# Altium footprint library mypcb.PcbLib: 46 footprints (part 3 of 3)
Each footprint in its own frame and in the unit in brackets; x right, y up, seen from the top. Pads: shape width x height; smd on the part's side, far side on the other; paste and mask are expansions set on the pad; w line width, h text height; cw(c..) or ccw(c..) is an arc to the next point about the centre after c.
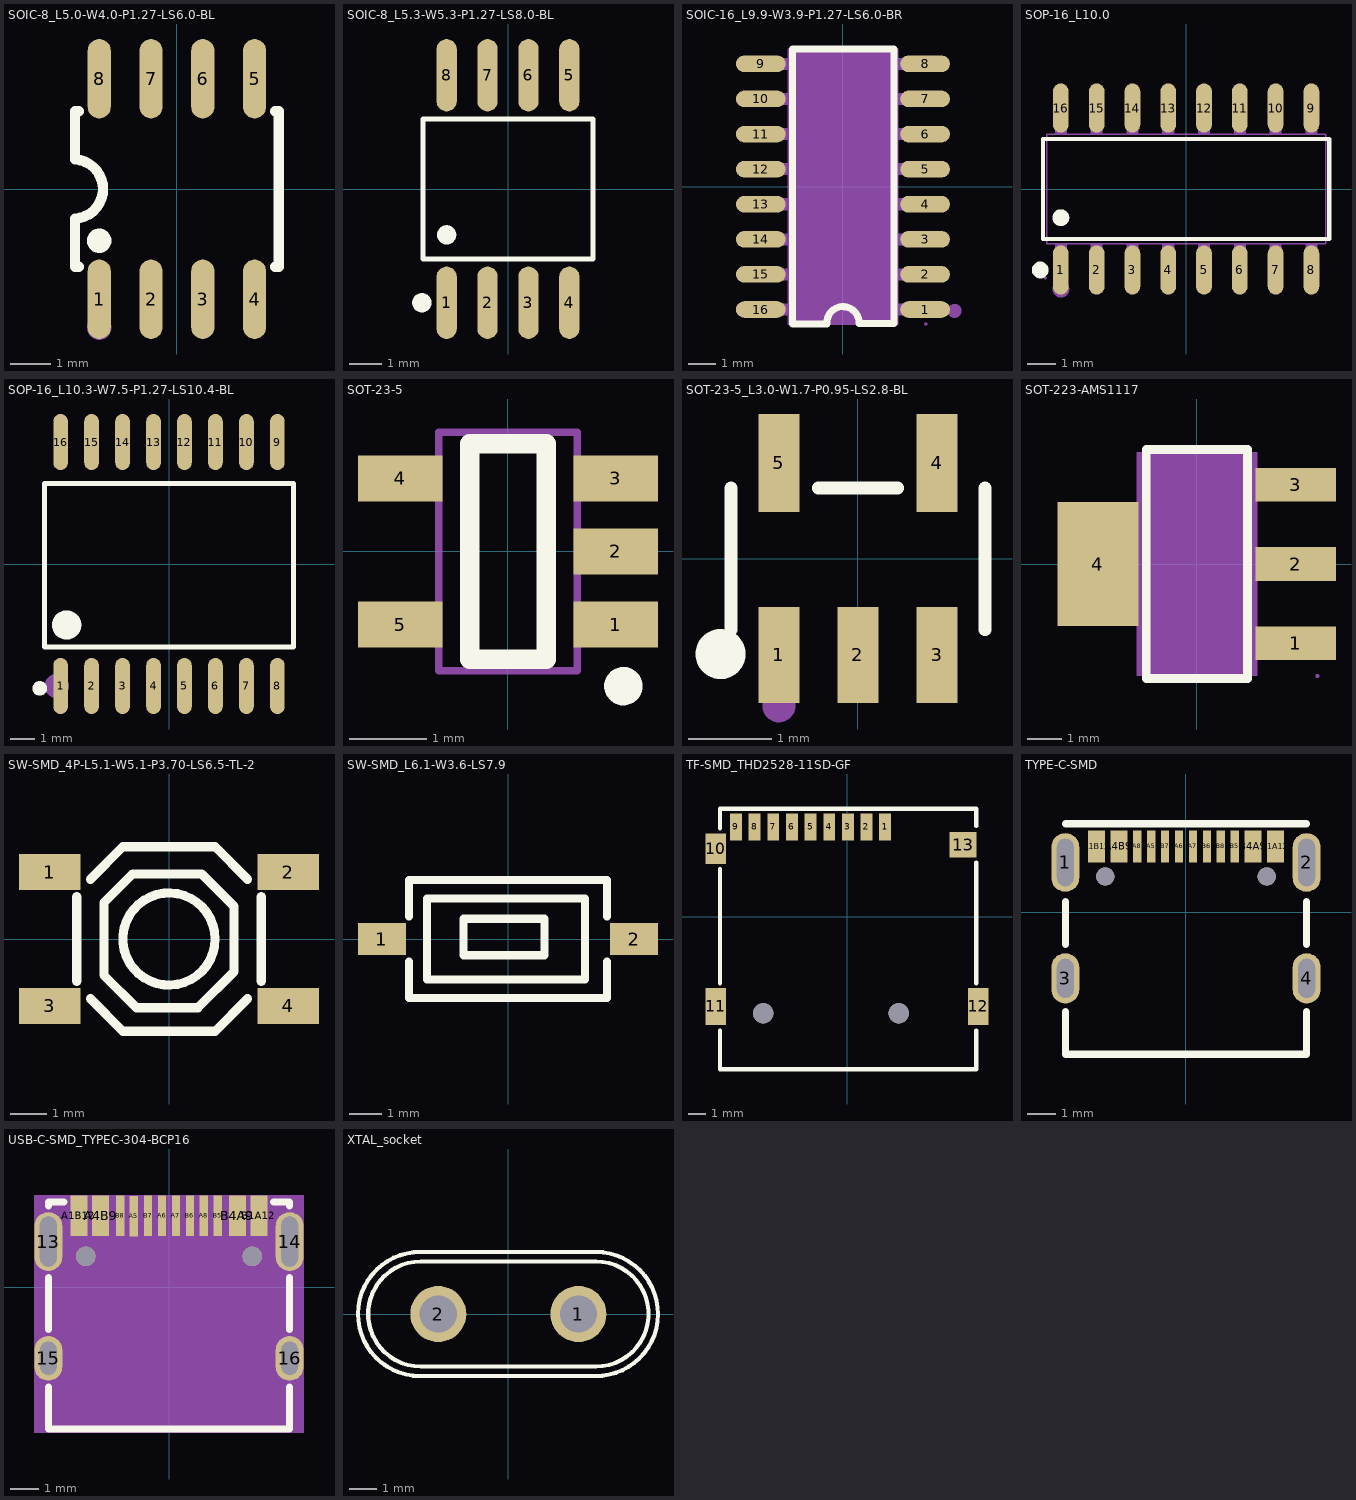
[diagram p2: the footprints below, top view; thin cyan lines are the x and y axes]

## SOIC-8_L5.0-W4.0-P1.27-LS6.0-BL [mil]
pads (8):
  oval 22.38x76.78 smd: 1(-75,-106.5) 2(-25,-106.5) 3(25,-106.5) 4(75,-106.5) 5(75,106.5) 6(25,106.5) 7(-25,106.5) 8(-75,106.5)
Top Overlay:
  circle w11.81: c-75,-50 r5.91
  lines w10: -98.43,-28.61 ccw(c-99.99,0) -98.23,28.59 ; -98.42,-28.61 -98.42,-59.05 -98.42,-75 -94.83,-75 ; -98.42,28.59 -98.42,59.05 -98.42,75 -94.83,75 ; 94.83,-75 98.42,-75 98.42,-59.05 98.42,59.05 98.42,75 94.83,75
Mechanical 15:
  circle w11.81: c-75,-133.86 r5.91

## SOIC-8_L5.3-W5.3-P1.27-LS8.0-BL [mm]
pads (8):
  oval 0.63x2.25 smd: 1(-1.905,-3.53) 2(-0.635,-3.53) 3(0.635,-3.53) 4(1.905,-3.53) 5(1.905,3.53) 6(0.635,3.53) 7(-0.635,3.53) 8(-1.905,3.53)
Top Overlay:
  circle w0.3: c-1.905,-1.424 r0.15
  circle w0.3: c-2.672,-3.53 r0.15
  lines w0.152: -2.639,-2.176 -2.639,2.176 2.639,2.176 2.639,-2.176 -2.639,-2.176
Mechanical 15:
  circle w0.3: c-1.905,-4.35 r0.15

## SOIC-16_L9.9-W3.9-P1.27-LS6.0-BR [mm]
pads (16):
  oval 1.8x0.6 smd: 1(2.972,-4.445) 2(2.972,-3.175) 3(2.972,-1.905) 4(2.972,-0.635) 5(2.972,0.635) 6(2.972,1.905) 7(2.972,3.175) 8(2.972,4.445) 9(-2.972,4.445) 10(-2.972,3.175) 11(-2.972,1.905) 12(-2.972,0.635) 13(-2.972,-0.635) 14(-2.972,-1.905) 15(-2.972,-3.175) 16(-2.972,-4.445)
Top Overlay:
  lines w0.254: -0.584,-4.976 -1.829,-4.976 -1.829,4.976 1.854,4.976 1.854,-4.928 ; -0.584,-4.95 cw(c0,-4.928) 0.584,-4.953 1.854,-4.953
Mechanical 4:
  region: -2,-5 -2,5 2,5 2,-5
Mechanical 5:
  pour cut-out: 1.99,-4.655 1.99,-4.235 2.175,-4.235 2.175,-4.655
  region: 2.165,-4.655 2.165,-4.235 3,-4.235 3,-4.655
  pour cut-out: 1.99,-3.385 1.99,-2.965 2.175,-2.965 2.175,-3.385
  region: 2.165,-3.385 2.165,-2.965 3,-2.965 3,-3.385
  pour cut-out: 1.99,-2.115 1.99,-1.695 2.175,-1.695 2.175,-2.115
  region: 2.165,-2.115 2.165,-1.695 3,-1.695 3,-2.115
  pour cut-out: 1.99,-0.845 1.99,-0.425 2.175,-0.425 2.175,-0.845
  region: 2.165,-0.845 2.165,-0.425 3,-0.425 3,-0.845
  pour cut-out: 1.99,0.425 1.99,0.845 2.175,0.845 2.175,0.425
  region: 2.165,0.425 2.165,0.845 3,0.845 3,0.425
  pour cut-out: 1.99,1.695 1.99,2.115 2.175,2.115 2.175,1.695
  region: 2.165,1.695 2.165,2.115 3,2.115 3,1.695
  pour cut-out: 1.99,2.965 1.99,3.385 2.175,3.385 2.175,2.965
  region: 2.165,2.965 2.165,3.385 3,3.385 3,2.965
  pour cut-out: 1.99,4.235 1.99,4.655 2.175,4.655 2.175,4.235
  region: 2.165,4.235 2.165,4.655 3,4.655 3,4.235
  pour cut-out: -2.175,-4.655 -2.175,-4.235 -1.99,-4.235 -1.99,-4.655
  region: -3,-4.655 -3,-4.235 -2.165,-4.235 -2.165,-4.655
  pour cut-out: -2.175,-3.385 -2.175,-2.965 -1.99,-2.965 -1.99,-3.385
  region: -3,-3.385 -3,-2.965 -2.165,-2.965 -2.165,-3.385
  pour cut-out: -2.175,-2.115 -2.175,-1.695 -1.99,-1.695 -1.99,-2.115
  region: -3,-2.115 -3,-1.695 -2.165,-1.695 -2.165,-2.115
  pour cut-out: -2.175,-0.845 -2.175,-0.425 -1.99,-0.425 -1.99,-0.845
  region: -3,-0.845 -3,-0.425 -2.165,-0.425 -2.165,-0.845
  pour cut-out: -2.175,0.425 -2.175,0.845 -1.99,0.845 -1.99,0.425
  region: -3,0.425 -3,0.845 -2.165,0.845 -2.165,0.425
  pour cut-out: -2.175,1.695 -2.175,2.115 -1.99,2.115 -1.99,1.695
  region: -3,1.695 -3,2.115 -2.165,2.115 -2.165,1.695
  pour cut-out: -2.175,2.965 -2.175,3.385 -1.99,3.385 -1.99,2.965
  region: -3,2.965 -3,3.385 -2.165,3.385 -2.165,2.965
  pour cut-out: -2.175,4.235 -2.175,4.655 -1.99,4.655 -1.99,4.235
  region: -3,4.235 -3,4.655 -2.165,4.655 -2.165,4.235
Mechanical 6:
  circle w0.06: c3,-4.97 r0.03
Mechanical 15:
  circle w0.254: c4.039,-4.496 r0.127
3D body "3D_ch340c.step": height 1.75, standoff 0.05, extent -2.966,-4.979 3.14,5.021

## SOP-16_L10.0 [mm]
pads (16):
  oval 0.559x1.745 smd mask+0.051: 1(-4.445,-2.873) 2(-3.175,-2.873) 3(-1.905,-2.873) 4(-0.635,-2.873) 5(0.635,-2.873) 6(1.905,-2.873) 7(3.175,-2.873) 8(4.445,-2.873) 9(4.445,2.873) 10(3.175,2.873) 11(1.905,2.873) 12(0.635,2.873) 13(-0.635,2.873) 14(-1.905,2.873) 15(-3.175,2.873) 16(-4.445,2.873)
Top Overlay:
  circle w0.3: c-5.177,-2.873 r0.15
  circle w0.3: c-4.445,-1.019 r0.15
  lines w0.152: -5.075,-1.77 5.077,-1.77 5.077,1.77 -5.075,1.77 -5.075,-1.77
Mechanical 6:
  circle w0.3: c-4.445,-3.551 r0.15
Mechanical 15:
  drawing of 37 lines, arcs and shapes, not listed
3D body "3D_ch340c.step": height 1.75, standoff 0.05, extent -4.979,-3.14 5.021,2.966

## SOP-16_L10.3-W7.5-P1.27-LS10.4-BL [mm]
pads (16):
  oval 0.6x2.3 smd: 1(-4.445,-5) 2(-3.175,-5) 3(-1.905,-5) 4(-0.635,-5) 5(0.635,-5) 6(1.905,-5) 7(3.175,-5) 8(4.445,-5) 9(4.445,5) 10(3.175,5) 11(1.905,5) 12(0.635,5) 13(-0.635,5) 14(-1.905,5) 15(-3.175,5) 16(-4.445,5)
Top Overlay:
  lines w0.2: -5.1,-3.4 -5.1,3 -5.1,3.3 5.1,3.3 5.1,-3.4 -5.1,-3.4
  lines w0.3: -5.301,-4.95 ccw(c-5.3,-5.1) -5.298,-4.95
  lines w0.6: -4.2,-2.2 ccw(c-4.196,-2.5) -4.192,-2.2
Mechanical 15:
  circle w0.5: c-4.6,-5 r0.25

## SOT-23-5 [mm]
pads (5):
  rect 1.1x0.6 smd: 1(1.4,-0.95) 2(1.4,0) 3(1.4,0.95) 4(-1.4,0.95) 5(-1.4,-0.95)
Top Overlay:
  circle w0.25: c1.5,-1.75 r0.125
  lines w0.254: -0.5,-1.4 0.5,-1.4 0.5,1.4 -0.5,1.4 -0.5,-1.4
Mechanical 13:
  lines w0.1: -0.9,-1.55 -0.9,1.55 0.9,1.55 0.9,-1.55 -0.9,-1.55

## SOT-23-5_L3.0-W1.7-P0.95-LS2.8-BL [mm]
pads (5):
  rect 0.49x1.157 smd: 1(-0.95,-1.154) 2(0,-1.154) 3(0.95,-1.154)
  rect 0.49x1.175 smd: 4(0.95,1.154) 5(-0.95,1.154)
Top Overlay:
  circle w0.3: c-1.651,-1.143 r0.15
  lines w0.152: -1.526,-0.851 -1.526,0.851 ; -0.476,0.851 0.476,0.851 ; 1.526,-0.851 1.526,0.851
Mechanical 15:
  circle w0.2: c-0.95,-1.763 r0.1

## SOT-223-AMS1117 [mm]
pads (4):
  rect 2.34x0.98 smd: 1(2.87,-2.3) 2(2.87,0) 3(2.87,2.3)
  rect 2.34x3.6 smd: 4(-2.87,0)
Top Overlay:
  lines w0.254: -1.471,-3.326 1.471,-3.326 1.471,3.326 -1.471,3.326 -1.471,-3.326
Mechanical 4:
  region: -1.75,-3.25 -1.75,3.25 1.75,3.25 1.75,-3.25
Mechanical 5:
  pour cut-out: -2.61,-1.5 -2.61,1.5 -1.74,1.5 -1.74,-1.5
  region: -2.6,-1.5 -2.6,1.5 -3.5,1.5 -3.5,-1.5
  pour cut-out: 1.74,1.95 1.74,2.65 2.61,2.65 2.61,1.95
  region: 2.6,1.95 2.6,2.65 3.5,2.65 3.5,1.95
  pour cut-out: 1.74,-0.35 1.74,0.35 2.61,0.35 2.61,-0.35
  region: 2.6,-0.35 2.6,0.35 3.5,0.35 3.5,-0.35
  pour cut-out: 1.74,-2.65 1.74,-1.95 2.61,-1.95 2.61,-2.65
  region: 2.6,-2.65 2.6,-1.95 3.5,-1.95 3.5,-2.65
Mechanical 6:
  circle w0.06: c3.5,-3.25 r0.03
3D body "3D_AMS1117.step": height 1.9, standoff 0.04, extent -3.472,-3.25 3.528,3.25

## SW-SMD_4P-L5.1-W5.1-P3.70-LS6.5-TL-2 [mm]
pads (4):
  rect 1.7x1 smd: 1(-3.3,1.849) 2(3.3,1.85) 3(-3.3,-1.85) 4(3.3,-1.85)
Top Overlay:
  circle w0.254: c0,0 r1.275
  lines w0.254: -2.55,-1.168 -2.55,1.168 ; -2.17,-1.655 -1.275,-2.55 1.275,-2.55 2.17,-1.655 ; -2.17,1.655 -1.275,2.55 1.275,2.55 2.17,1.655 ; 2.55,-1.168 2.55,1.168 ; -1.801,-0.998 -1.801,1.001 -1.001,1.801 0.899,1.801 1.801,0.899 1.801,-0.899 0.8,-1.9 -0.899,-1.9 -1.801,-0.998
3D body "3D_1TS001G.step": height 1.57, standoff 0.02, extent -3.121,-2.61 3.279,2.59

## SW-SMD_L6.1-W3.6-LS7.9 [mm]
pads (2):
  rect 1.5x1 smd: 1(-3.95,0) 2(3.95,0)
Top Overlay:
  lines w0.254: -3.1,-0.708 -3.1,-1.85 3.1,-1.85 3.1,-0.708 ; -3.1,0.708 -3.1,1.85 3.1,1.85 3.1,0.708 ; -2.54,-1.27 2.413,-1.27 2.413,1.27 -2.54,1.27 -2.54,-1.27 ; -1.397,-0.508 -1.397,0.635 1.143,0.635 1.143,-0.508 -1.397,-0.508

## TF-SMD_THD2528-11SD-GF [mm]
pads (15):
  rect 0.7x1.6 smd: 1(2.25,5.3) 2(1.15,5.3) 3(0.05,5.3) 4(-1.05,5.3) 5(-2.15,5.3) 6(-3.25,5.3) 7(-4.35,5.3) 8(-5.45,5.3) 9(-6.55,5.3)
  rect 1.2x1.8 smd: 10(-7.75,4)
  rect 1.2x2.2 smd: 11(-7.75,-5.3) 12(7.75,-5.3)
  rect 1.6x1.5 smd: 13(6.85,4.25)
  round 1.2 hole 1.2 unplated: ""(-4.95,-5.7) ""(3.05,-5.7)
Top Overlay:
  lines w0.254: -7.493,-6.716 -7.493,-9.002 7.62,-9.002 7.62,-6.716 ; -7.493,-3.922 -7.493,2.809 ; -7.493,5.222 -7.493,6.365 7.62,6.365 7.62,5.349 ; 7.62,-3.922 7.62,3.19

## TYPE-C-SMD [mm]
pads (18):
  oval 1x2.1 hole 0.6 slot 1.7 at 90 deg: 1(-4.32,1.787) 2(4.32,1.787)
  oval 1x1.8 hole 0.6 slot 1.4 at 90 deg: 3(-4.32,-2.362) 4(4.32,-2.362)
  rect 0.6x1.15 smd: A1B12(-3.2,2.362) A4B9(-2.4,2.362) B1A12(3.2,2.362) B4A9(2.4,2.362)
  rect 0.3x1.15 smd: A5(-1.25,2.362) A6(-0.25,2.362) A7(0.25,2.362) A8(-1.75,2.362) B5(1.75,2.362) B6(0.75,2.362) B7(-0.75,2.362) B8(1.25,2.362)
  round 0.65 hole 0.65 unplated: ""(-2.89,1.288) ""(2.89,1.288)
Top Overlay:
  lines w0.254: -4.318,-3.556 -4.318,-5.08 4.318,-5.08 4.318,-3.556 ; -4.318,-1.143 -4.318,0.381 ; -4.318,3.175 4.318,3.175 ; 4.318,-1.143 4.318,0.381
3D body "USB Type C Port (SMD Type).STEP": height 1.61, standoff -2.6, extent -4.699,-5.22 4.241,2.68

## USB-C-SMD_TYPEC-304-BCP16 [mm]
pads (18):
  oval 1x2.1 hole 0.6 slot 1.8 at 90 deg: 13(-4.32,1.633) 14(4.32,1.633)
  oval 1x1.6 hole 0.6 slot 1.2 at 90 deg: 15(-4.32,-2.547) 16(4.32,-2.547)
  rect 0.6x1.45 smd: A1B12(-3.225,2.547) A4B9(-2.45,2.547) B1A12(3.22,2.547) B4A9(2.45,2.547)
  rect 0.3x1.45 smd: A5(-1.26,2.532) A6(-0.25,2.547) A7(0.25,2.547) A8(1.25,2.547) B5(1.75,2.547) B6(0.75,2.547) B7(-0.75,2.547) B8(-1.75,2.547)
  round 0.7 hole 0.7 unplated: ""(-2.98,1.102) ""(2.98,1.102)
Top Overlay:
  lines w0.254: -4.318,-3.579 -4.318,-5.08 4.318,-5.08 4.318,-3.579 ; -4.318,-1.516 -4.318,0.351 ; -4.318,2.914 -4.318,3.048 -3.756,3.048 ; 3.751,3.048 4.318,3.048 4.318,2.914 ; 4.318,-1.516 4.318,0.351
Mechanical 4:
  circle w0.35: c-2.98,1.102 r0.175
  circle w0.35: c2.98,1.102 r0.175
  region: -4.82,3.284 4.82,3.284 4.82,-5.207 -4.82,-5.207
Mechanical 5:
  circle w0.127: c-2.98,1.102 r0.35
  circle w0.127: c2.98,1.102 r0.35
  region: -3.525,3.272 -2.925,3.272 -2.925,1.823 -3.525,1.823
  region: -2.75,3.272 -2.15,3.272 -2.15,1.823 -2.75,1.823
  region: -1.9,3.272 -1.6,3.272 -1.6,1.823 -1.9,1.823
  region: -1.41,3.257 -1.11,3.257 -1.11,1.807 -1.41,1.807
  region: -0.9,3.272 -0.6,3.272 -0.6,1.823 -0.9,1.823
  region: -0.4,3.272 -0.1,3.272 -0.1,1.823 -0.4,1.823
  region: 0.1,3.272 0.4,3.272 0.4,1.823 0.1,1.823
  region: 0.6,3.272 0.9,3.272 0.9,1.823 0.6,1.823
  region: 1.1,3.272 1.4,3.272 1.4,1.823 1.1,1.823
  region: 1.6,3.272 1.9,3.272 1.9,1.823 1.6,1.823
  region: 2.15,3.272 2.75,3.272 2.75,1.823 2.15,1.823
  region: 2.92,3.272 3.52,3.272 3.52,1.823 2.92,1.823
  region: -4.82,2.683 -3.82,2.683 -3.82,0.583 -4.82,0.583
  region: 3.82,2.683 4.82,2.683 4.82,0.583 3.82,0.583
  region: -4.82,-1.747 -3.82,-1.747 -3.82,-3.347 -4.82,-3.347
  region: 3.82,-1.747 4.82,-1.747 4.82,-3.347 3.82,-3.347
3D body "User Library-USB Type C Port (SMD Type).X_T": height 1.61, standoff -2.6, extent -4.47,-5.667 4.47,2.233

## XTAL_socket [mil]
pads (2):
  round 80 hole 53: 1(100,0) 2(-100,0)
Top Overlay:
  lines w6: -126,-88.58 cw(c-126,0) -125.09,88.58 125,88.58 cw(c125,0) 124.07,-88.58 -126,-88.58 ; -125,-75 cw(c-125,0) -125,75 125,75 cw(c125,0) 125,-75 -125,-75
3D body: height 78.74, standoff -39.37, extent -119.53,-19.65 -80.31,19.65
3D body: height 78.74, standoff -39.37, extent 80.47,-19.64 119.69,19.65
3D body "base.stp": height 102.36, standoff 3.94, extent -214.22,-89.42 214.23,89.42